# EAGLE library part STPIC6D595 (library magzor)
STMicro STPIC6C595, STPIC6D595 8-bit serial to parallel shift register
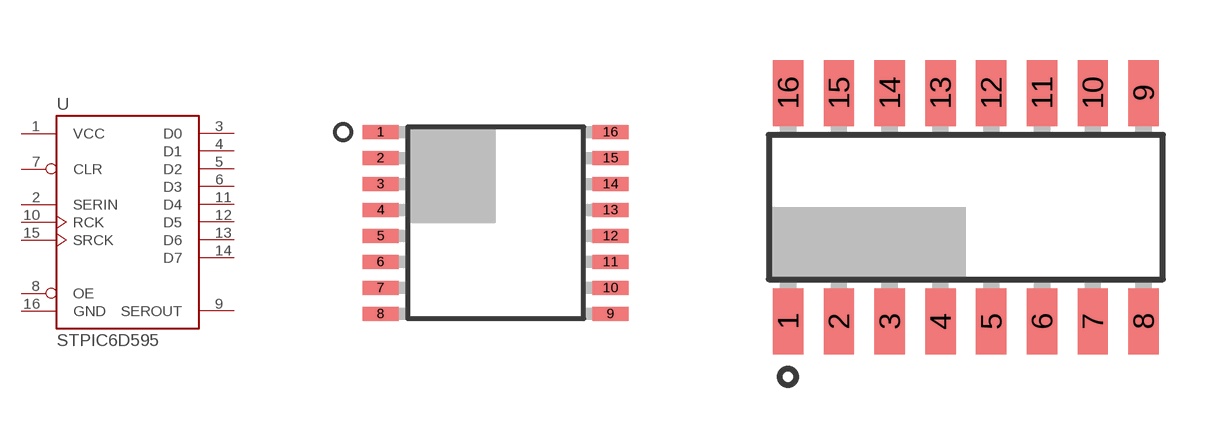
[diagram p34: symbol with the pads of TSSOP16; footprints TSSOP16, SO16]

Designator prefix U

## STPIC6D595T  [TSSOP16]
1  VCC  pwr
2  SERIN
3  D0
4  D1
5  D2
6  D3
7  CLR
8  OE
9  SEROUT
10  RCK
11  D4
12  D5
13  D6
14  D7
15  SRCK
16  GND  pwr

## STPIC6D595MTR  [SO16]
Pads as for TSSOP16

## Footprint TSSOP16 (pad centres in mm)
smd 0.9 x 0.35: 1 -2.875,2.275; 2 -2.875,1.625; 3 -2.875,0.975; 4 -2.875,0.325; 5 -2.875,-0.325; 6 -2.875,-0.975; 7 -2.875,-1.625; 8 -2.875,-2.275; 9 2.875,-2.275; 10 2.875,-1.625; 11 2.875,-0.975; 12 2.875,-0.325; 13 2.875,0.325; 14 2.875,0.975; 15 2.875,1.625; 16 2.875,2.275

## Footprint SO16 (pad centres in mm)
smd 0.762 x 1.651: 1 -4.445,-2.857; 2 -3.175,-2.857; 3 -1.905,-2.857; 4 -0.635,-2.857; 5 0.635,-2.857; 6 1.905,-2.857; 7 3.175,-2.857; 8 4.445,-2.857; 9 4.445,2.857; 10 3.175,2.857; 11 1.905,2.857; 12 0.635,2.857; 13 -0.635,2.857; 14 -1.905,2.857; 15 -3.175,2.857; 16 -4.445,2.857